# EAGLE library part X__JST_ZH_LIEGEND_4 (library 16112011___connector)
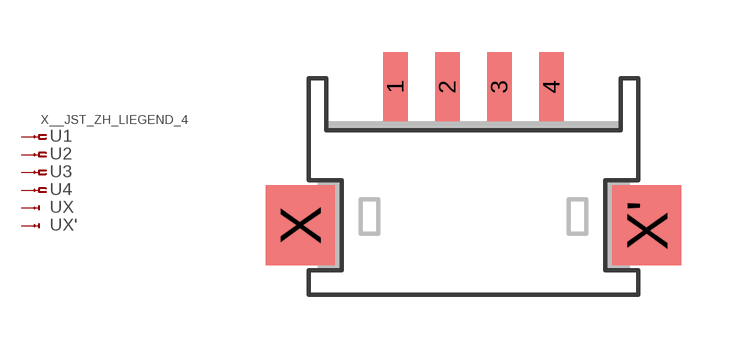
[diagram p45: symbol with the pads of JST_ZH_LIEGEND_4; footprint JST_ZH_LIEGEND_4]

Designator prefix -; gates 1=ZHPIN-NV 2=ZHPIN-N 3=ZHPIN-N 4=ZHPIN-N X=ZHPIN-X X'=ZHPIN-X

## X__JST_ZH_LIEGEND_4  [JST_ZH_LIEGEND_4]
1  1:1  pas
2  2:1  pas
3  3:1  pas
4  4:1  pas
X  X:1  pas
X'  X':1  pas

## Footprint JST_ZH_LIEGEND_4 (pad centres in mm)
smd 0.7 x 2: 1 0,0; 2 1.5,0; 3 3,0; 4 4.5,0
smd 2 x 2.3: X -2.75,-4; X' 7.25,-4